# Altium footprint library PcbLib1.PcbLib: 17 footprints (part 2 of 2)
Each footprint in its own frame and in the unit in brackets; x right, y up, seen from the top. Pads: shape width x height; smd on the part's side, far side on the other; paste and mask are expansions set on the pad; w line width, h text height; cw(c..) or ccw(c..) is an arc to the next point about the centre after c.
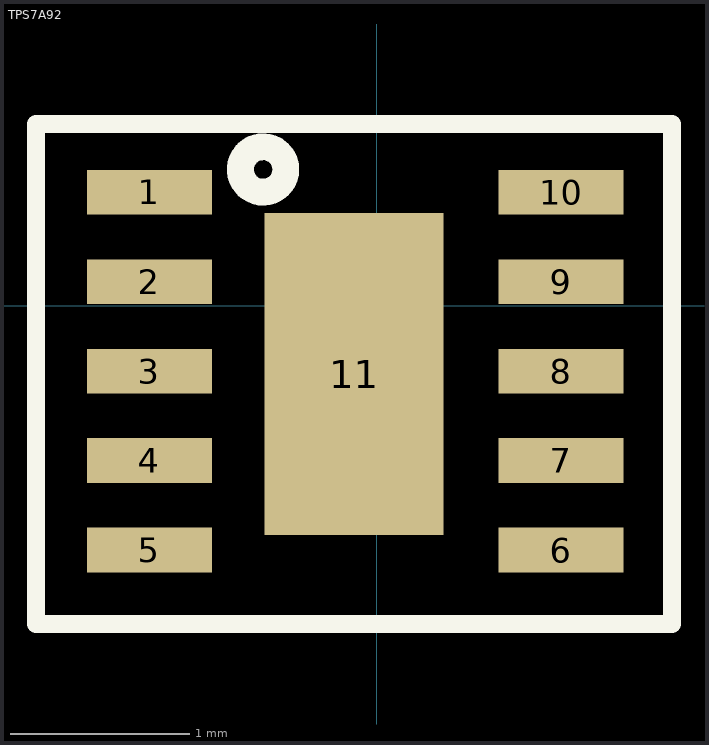
[diagram p1: the footprint, top view; thin cyan lines are the x and y axes]

## TPS7A92 [mm]
pads (11):
  rect 0.7x0.25 smd: 1(-1.27,0.635) 2(-1.27,0.135) 3(-1.27,-0.365) 4(-1.27,-0.865) 5(-1.27,-1.365) 6(1.03,-1.365) 7(1.03,-0.865) 8(1.03,-0.365) 9(1.03,0.135) 10(1.03,0.635)
  rect 1x1.8 smd: 11(-0.127,-0.381)
Top Overlay:
  circle w0.15: c-0.635,0.762 r0.127
  lines w0.1: -1.905,-1.778 1.651,-1.778 1.651,1.016 -1.905,1.016 -1.905,-1.778